# Altium footprint library SNAP_IN_10mm-SPE-SLPX.PcbLib: 1 footprints
Each footprint in its own frame and in the unit in brackets; x right, y up, seen from the top. Pads: shape width x height; smd on the part's side, far side on the other; paste and mask are expansions set on the pad; w line width, h text height; cw(c..) or ccw(c..) is an arc to the next point about the centre after c.
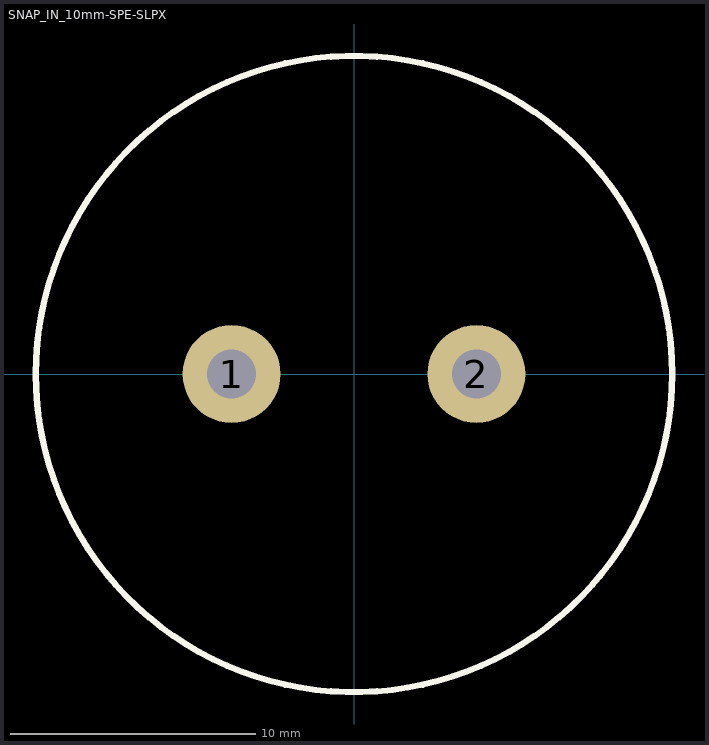
[diagram p0: the footprint, top view; thin cyan lines are the x and y axes]

## SNAP_IN_10mm-SPE-SLPX [mm]
height 30
pads (2):
  round 4 hole 2: 1(-5,0) 2(5,0)
Top Overlay:
  circle w0.254: c0,0 r13
3D body: height 30, standoff 0, extent -12.5,-12.627 12.5,12.373